# Altium footprint library EIGHT_29.PcbLib: 57 footprints (part 3 of 4)
Each footprint in its own frame and in the unit in brackets; x right, y up, seen from the top. Pads: shape width x height; smd on the part's side, far side on the other; paste and mask are expansions set on the pad; w line width, h text height; cw(c..) or ccw(c..) is an arc to the next point about the centre after c.
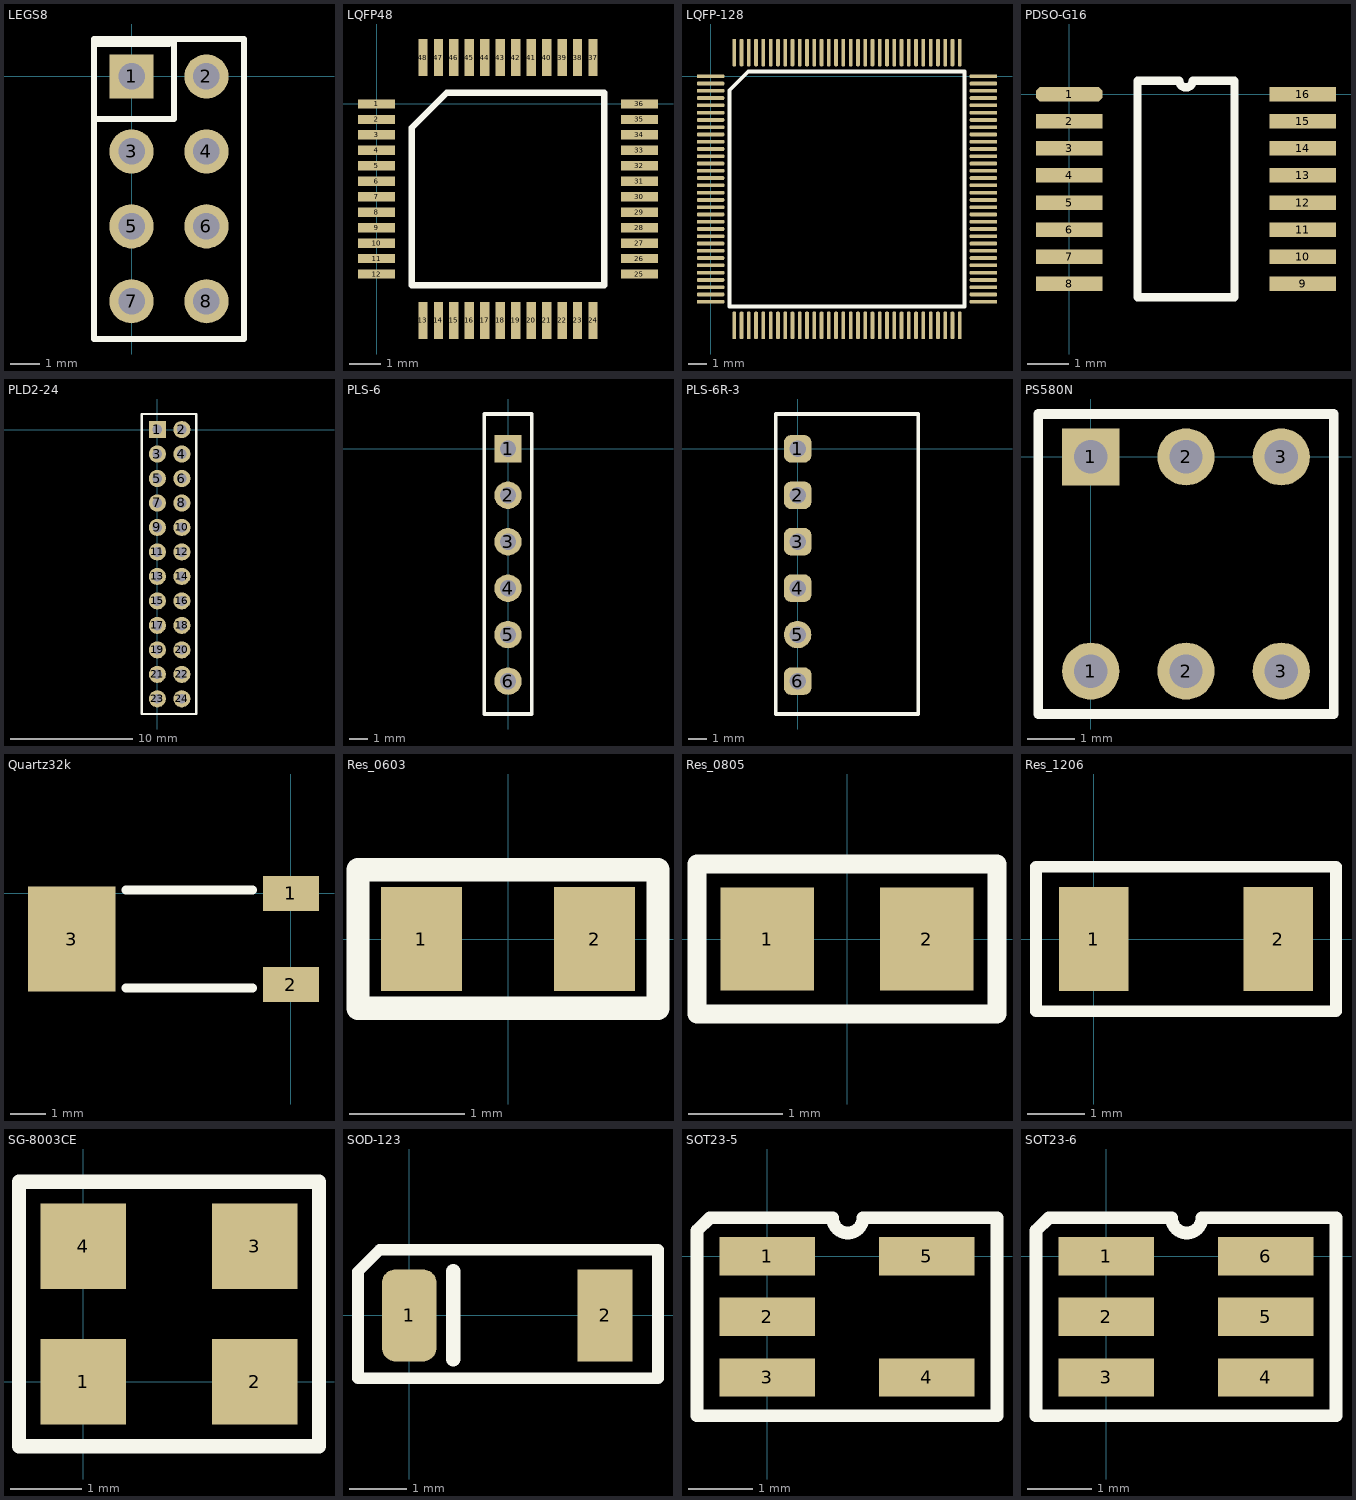
[diagram p2: the footprints below, top view; thin cyan lines are the x and y axes]

## LEGS8 [mm]
height 10
pads (8):
  rect 1.5x1.5 hole 0.9: 1(0,0)
  round 1.5 hole 0.9: 2(2.54,0) 3(0,-2.54) 4(2.54,-2.54) 5(0,-5.08) 6(2.54,-5.08) 7(0,-7.62) 8(2.54,-7.62)
Top Overlay:
  lines w0.2: -1.27,-1.44 1.44,-1.44 1.44,1.27 ; -1.27,1.1 1.27,1.1 ; -1.27,-8.9 3.81,-8.9 3.81,1.27 -1.27,1.27 -1.27,-8.9

## LQFP48 [mm]
pads (48):
  rect 1.2x0.3 smd: 1(0,0) 2(0,-0.5) 3(0,-1) 4(0,-1.5) 5(0,-2) 6(0,-2.5) 7(0,-3) 8(0,-3.5) 9(0,-4) 10(0,-4.5) 11(0,-5) 12(0,-5.5) 25(8.5,-5.5) 26(8.5,-5) 27(8.5,-4.5) 28(8.5,-4) 29(8.5,-3.5) 30(8.5,-3) 31(8.5,-2.5) 32(8.5,-2) 33(8.5,-1.5) 34(8.5,-1) 35(8.5,-0.5) 36(8.5,0)
  rect 0.3x1.2 smd: 13(1.5,-7) 14(2,-7) 15(2.5,-7) 16(3,-7) 17(3.5,-7) 18(4,-7) 19(4.5,-7) 20(5,-7) 21(5.5,-7) 22(6,-7) 23(6.5,-7) 24(7,-7) 37(7,1.5) 38(6.5,1.5) 39(6,1.5) 40(5.5,1.5) 41(5,1.5) 42(4.5,1.5) 43(4,1.5) 44(3.5,1.5) 45(3,1.5) 46(2.5,1.5) 47(2,1.5) 48(1.5,1.5)
Top Overlay:
  lines w0.2: 1.135,-5.865 7.365,-5.865 7.365,0.365 2.27,0.365 1.135,-0.77 1.135,-5.865

## LQFP-128 [mm]
pads (128):
  rrect50% 1.5x0.204 smd: 1(0,0) 2(0,-0.4) 3(0,-0.8) 4(0,-1.2) 5(0,-1.6) 6(0,-2) 7(0,-2.4) 8(0,-2.8) 9(0,-3.2) 10(0,-3.6) 11(0,-4) 12(0,-4.4) 13(0,-4.8) 14(0,-5.2) 15(0,-5.6) 16(0,-6) 17(0,-6.4) 18(0,-6.8) 19(0,-7.2) 20(0,-7.6) 21(0,-8) 22(0,-8.4) 23(0,-8.8) 24(0,-9.2) 25(0,-9.6) 26(0,-10) 27(0,-10.4) 28(0,-10.8) 29(0,-11.2) 30(0,-11.6) 31(0,-12) 32(0,-12.4) 65(15,-12.4) 66(15,-12) 67(15,-11.6) 68(15,-11.2) 69(15,-10.8) 70(15,-10.4) 71(15,-10) 72(15,-9.6) 73(15,-9.2) 74(15,-8.8) 75(15,-8.4) 76(15,-8) 77(15,-7.6) 78(15,-7.2) 79(15,-6.8) 80(15,-6.4) 81(15,-6) 82(15,-5.6) 83(15,-5.2) 84(15,-4.8) 85(15,-4.4) 86(15,-4) 87(15,-3.6) 88(15,-3.2) 89(15,-2.8) 90(15,-2.4) 91(15,-2) 92(15,-1.6) 93(15,-1.2) 94(15,-0.8) 95(15,-0.4) 96(15,0)
  rrect50% 0.204x1.5 smd: 33(1.3,-13.7) 34(1.7,-13.7) 35(2.1,-13.7) 36(2.5,-13.7) 37(2.9,-13.7) 38(3.3,-13.7) 39(3.7,-13.7) 40(4.1,-13.7) 41(4.5,-13.7) 42(4.9,-13.7) 43(5.3,-13.7) 44(5.7,-13.7) 45(6.1,-13.7) 46(6.5,-13.7) 47(6.9,-13.7) 48(7.3,-13.7) 49(7.7,-13.7) 50(8.1,-13.7) 51(8.5,-13.7) 52(8.9,-13.7) 53(9.3,-13.7) 54(9.7,-13.7) 55(10.1,-13.7) 56(10.5,-13.7) 57(10.9,-13.7) 58(11.3,-13.7) 59(11.7,-13.7) 60(12.1,-13.7) 61(12.5,-13.7) 62(12.9,-13.7) 63(13.3,-13.7) 64(13.7,-13.7) 97(13.7,1.3) 98(13.3,1.3) 99(12.9,1.3) 100(12.5,1.3) 101(12.1,1.3) 102(11.7,1.3) 103(11.3,1.3) 104(10.9,1.3) 105(10.5,1.3) 106(10.1,1.3) 107(9.7,1.3) 108(9.3,1.3) 109(8.9,1.3) 110(8.5,1.3) 111(8.1,1.3) 112(7.7,1.3) 113(7.3,1.3) 114(6.9,1.3) 115(6.5,1.3) 116(6.1,1.3) 117(5.7,1.3) 118(5.3,1.3) 119(4.9,1.3) 120(4.5,1.3) 121(4.1,1.3) 122(3.7,1.3) 123(3.3,1.3) 124(2.9,1.3) 125(2.5,1.3) 126(2.1,1.3) 127(1.7,1.3) 128(1.3,1.3)
Top Overlay:
  lines w0.2: 1.035,-12.665 1.035,-0.77 2.07,0.265 13.965,0.265 13.965,-12.665 1.035,-12.665

## PDSO-G16 [mm]
pads (16):
  oct 1.6x0.35 smd: 1(0,0)
  rect 1.6x0.35 smd: 2(0,-0.65) 3(0,-1.3) 4(0,-1.95) 5(0,-2.6) 6(0,-3.25) 7(0,-3.9) 8(0,-4.55) 9(5.6,-4.55) 10(5.6,-3.9) 11(5.6,-3.25) 12(5.6,-2.6) 13(5.6,-1.95) 14(5.6,-1.3) 15(5.6,-0.65) 16(5.6,0)
Top Overlay:
  lines w0.2: 1.635,-4.875 3.965,-4.875 3.965,0.325 2.962,0.325 cw(c2.8,0.325) 2.638,0.325 1.635,0.325 1.635,-4.875

## PLD2-24 [mm]
pads (24):
  rect 1.4x1.4 hole 0.8: 1(0,0)
  round 1.4 hole 0.8: 2(2,0) 3(0,-2) 4(2,-2) 5(0,-4) 6(2,-4) 7(0,-6) 8(2,-6) 9(0,-8) 10(2,-8) 11(0,-10) 12(2,-10) 13(0,-12) 14(2,-12) 15(0,-14) 16(2,-14) 17(0,-16) 18(2,-16) 19(0,-18) 20(2,-18) 21(0,-20) 22(2,-20) 23(0,-22) 24(2,-22)
Top Overlay:
  lines w0.2: 0.5,1.27 3.175,1.27 3.175,-23.241 -1.27,-23.241 -1.27,1.27 1.5,1.27

## PLS-6 [mm] "PLS connector"
pads (6):
  rect 1.5x1.5 hole 0.9: 1(0,0)
  round 1.5 hole 0.9: 2(0,-2.54) 3(0,-5.08) 4(0,-7.62) 5(0,-10.16) 6(0,-12.7)
Top Overlay:
  lines w0.2: -1.3,-14.5 1.3,-14.5 1.3,-10.399 1.3,-2.196 1.3,1.905 -1.3,1.905 -1.3,-14.5

## PLS-6R-3 [mm] "PLS connector"
pads (6):
  rrect50% 1.5x1.5 hole 0.9: 1(0,0) 2(0,-2.54) 3(0,-5.08) 4(0,-7.62) 6(0,-12.7)
  round 1.5 hole 0.9: 5(0,-10.16)
Top Overlay:
  lines w0.2: -1.2,-14.5 6.6,-14.5 6.6,1.905 -1.2,1.905 -1.2,-14.5

## PS580N [mm] "button"
pads (6):
  round 1.2 hole 0.7: 1(0,-4.5) 2(2,-4.5) 2(2,0) 3(4,-4.5) 3(4,0)
  rect 1.2x1.2 hole 0.7: 1(0,0)
Top Overlay:
  lines w0.2: -1.1,-5.4 -1.1,0.9 5.1,0.9 5.1,-5.4 -1.1,-5.4

## Quartz32k [mm] "Resonator 32kHz"
height 3
pads (3):
  rect 1.6x1 smd: 1(0,0) 2(0,-2.6)
  rect 2.5x3 smd: 3(-6.25,-1.3)
Top Overlay:
  lines w0.254: -4.7,-2.7 -1.1,-2.7 ; -4.7,0.1 -1.1,0.1

## Res_0603 [mm] "0603"
height 1
pads (2):
  rect 0.7x0.9 smd: 1(-0.75,0) 2(0.75,0)
Top Overlay:
  lines w0.2: -1.3,-0.6 -1.3,-0.05 -1.3,0.6 1.3,0.6 1.3,-0.6 0.325,-0.6 -0.325,-0.6 -1.3,-0.6

## Res_0805 [mm]
pads (2):
  rect 1x1.1 smd: 1(-0.85,0) 2(0.85,0)
Top Overlay:
  lines w0.2: -1.6,-0.8 -1.6,-0.117 -1.6,0.8 1.6,0.8 1.6,-0.8 -1.6,-0.8

## Res_1206 [mm]
pads (2):
  rect 1.2x1.8 smd: 1(0,0) 2(3.2,0)
Top Overlay:
  lines w0.2: -1,-1.25 -1,1.25 2.225,1.25 4.2,1.25 4.2,-1.25 -1,-1.25

## SG-8003CE [mm]
pads (4):
  rect 1.2x1.2 smd: 1(0,0) 2(2.4,0) 3(2.4,1.9) 4(0,1.9)
Top Overlay:
  lines w0.2: -0.9,-0.9 3.3,-0.9 3.3,2.8 -0.9,2.8 -0.9,-0.9

## SOD-123 [mm]
pads (2):
  rrect50% 0.95x1.6 smd: 1(0,0)
  rect 0.95x1.6 smd: 2(3.4,0)
Top Overlay:
  lines w0.2: 3.956,1.143 4.191,1.143 ; -0.889,-1.094 -0.889,0.762 -0.508,1.143 4.318,1.143 4.318,-1.094 1.31,-1.094 0.83,-1.094 0.332,-1.094 -0.889,-1.094
  lines w0.254: 0.762,-0.762 0.762,0.762

## SOT23-5 [mm]
pads (5):
  rect 1.5x0.6 smd: 1(0,0) 2(0,-0.95) 3(0,-1.9) 4(2.5,-1.9) 5(2.5,0)
Top Overlay:
  lines w0.2: -1.1,-2.5 3.6,-2.5 3.6,0.6 1.5,0.6 cw(c1.262,0.6) 1.025,0.6 -0.9,0.6 -1.1,0.4 -1.1,-2.5

## SOT23-6 [mm]
pads (6):
  rect 1.5x0.6 smd: 1(0,0) 2(0,-0.95) 3(0,-1.9) 4(2.5,-1.9) 5(2.5,-0.95) 6(2.5,0)
Top Overlay:
  lines w0.2: -1.1,-2.5 -1.1,0.4 -0.9,0.6 1.025,0.6 ccw(c1.262,0.6) 1.5,0.6 3.6,0.6 3.6,-2.5 -1.1,-2.5